# EAGLE library part DUAL-OPAMP (library opamps)
Generic 2-channel DIP-8 opamp
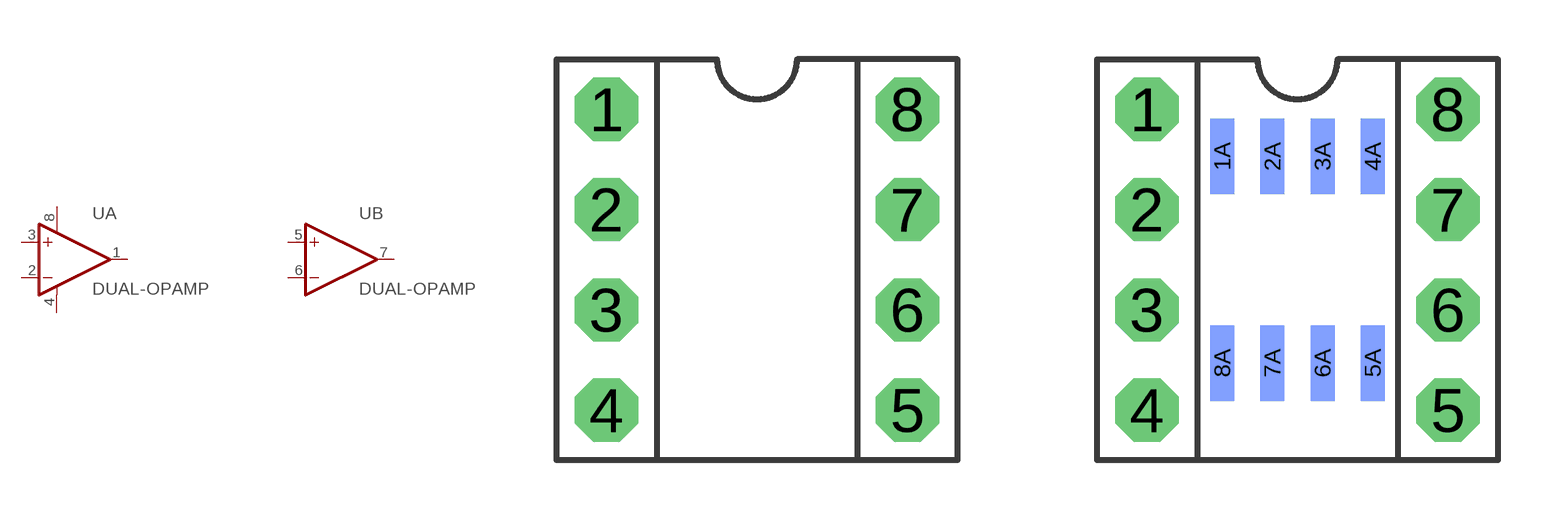
[diagram p0: symbol with the pads of DIP-8; footprints DIP-8, DIP-8_SOIC-8]

Designator prefix U; gates B=OPA A=OPA+-

## DUAL-OPAMP_DIP8  [DIP-8]
1  A:OUT  out
2  A:-IN  in
3  A:+IN  in
4  A:V-  pwr
5  B:+IN  in
6  B:-IN  in
7  B:OUT  out
8  A:V+  pwr

## DUAL-OPAMP_DIP8_SO8  [DIP-8_SOIC-8]
Pads as for DIP-8

## DUAL-OPAMP_SO8  [SOIC-8]
Pads as for DIP-8

## Footprint DIP-8 (pad centres in mm)
drill 0.813 pad 1.6 octagon: 1 -3.81,3.81; 2 -3.81,1.27; 3 -3.81,-1.27; 4 -3.81,-3.81; 5 3.81,-3.81; 6 3.81,-1.27; 7 3.81,1.27; 8 3.81,3.81

## Footprint DIP-8_SOIC-8 (pad centres in mm)
Combined DIP-8 and SOIC-8 footprint For chips available in both packages, with the same pinout. DIP-8 on top side of board, SOIC-8 on bottom.
drill 0.813 pad 1.6 octagon: 1 -3.81,3.81; 2 -3.81,1.27; 3 -3.81,-1.27; 4 -3.81,-3.81; 5 3.81,-3.81; 6 3.81,-1.27; 7 3.81,1.27; 8 3.81,3.81
smd 0.61 x 1.905 bottom: 1A -1.905,2.616; 2A -0.635,2.616; 3A 0.635,2.616; 4A 1.905,2.616; 5A 1.905,-2.616; 6A 0.635,-2.616; 7A -0.635,-2.616; 8A -1.905,-2.616

## Footprint SOIC-8 (pad centres in mm)
SOIC-8
smd 2.21 x 0.61: 1 -2.616,1.905; 2 -2.616,0.635; 3 -2.616,-0.635; 4 -2.616,-1.905; 5 2.616,-1.905; 6 2.616,-0.635; 7 2.616,0.635; 8 2.616,1.905